# Altium footprint library PAL.PcbLib: 271 footprints (part 4 of 17)
Each footprint in its own frame and in the unit in brackets; x right, y up, seen from the top. Pads: shape width x height; smd on the part's side, far side on the other; paste and mask are expansions set on the pad; w line width, h text height; cw(c..) or ccw(c..) is an arc to the next point about the centre after c.
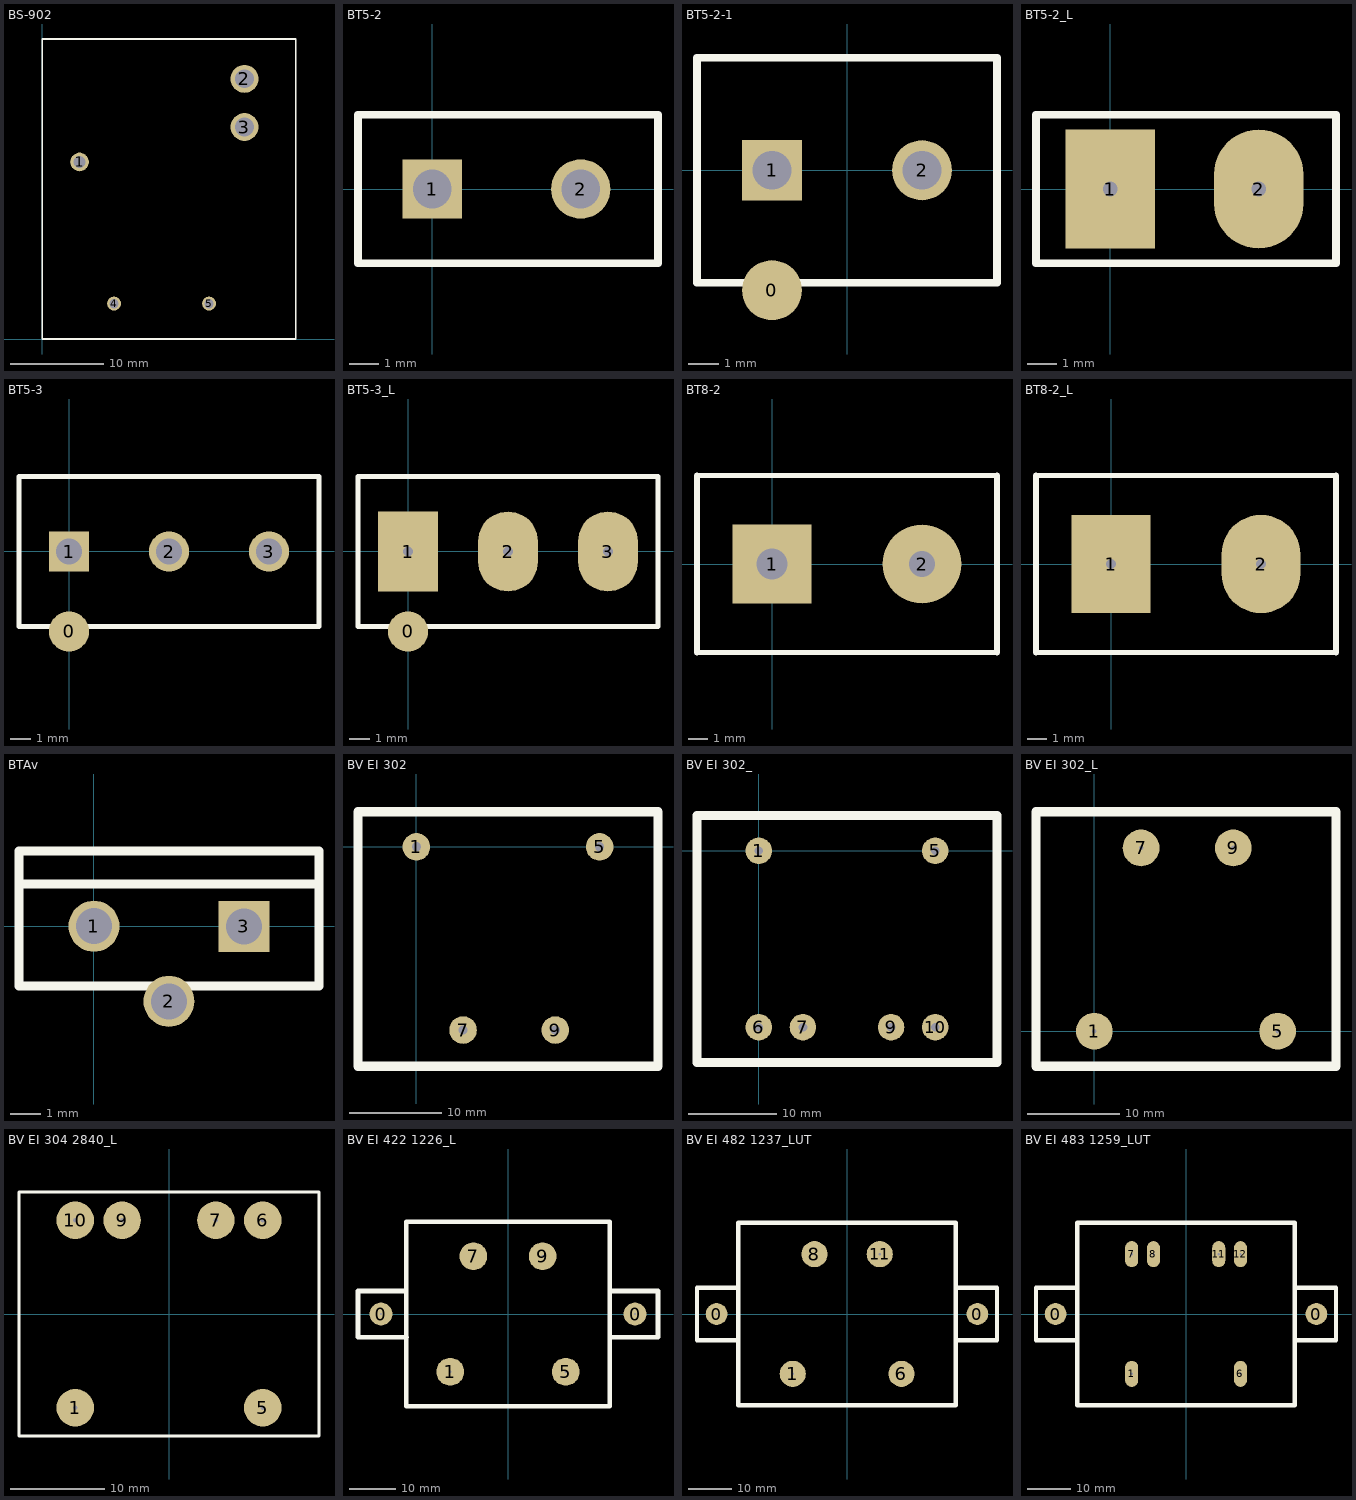
[diagram p3: the footprints below, top view; thin cyan lines are the x and y axes]

## BS-902 [mm]
pads (5):
  round 2 on Top hole 1.3: 1(3.994,19.007)
  round 3 on Top hole 2: 2(21.694,27.932) 3(21.694,22.757)
  round 1.5 on Top hole 1: 4(7.694,3.807) 5(17.894,3.807)
Top Overlay:
  lines w0.2: -0.006,0.007 27.194,0.007 27.194,32.207 -0.006,32.207 -0.006,0.007

## BT5-2 [mm]
pads (2):
  rect 2x2 on Top hole 1.3: 1(0.006,0.008)
  round 2 on Top hole 1.3: 2(5.006,0.008)
Top Overlay:
  lines w0.254: -2.494,1.508 -2.494,2.508 7.606,2.508 7.606,-2.492 -2.494,-2.492 -2.494,2.008

## BT5-2-1 [mm]
pads (3):
  round 2 smd: 0(-2.5,-4)
  rect 2x2 on Top hole 1.3: 1(-2.5,0)
  round 2 on Top hole 1.3: 2(2.5,0)
Top Overlay:
  lines w0.254: -5,-3.75 5,-3.75 5,3.75 -5,3.75 -5,-3.75

## BT5-2_L [mm]
pads (2):
  rect 3x4 on Top hole 0.5: 1(0.006,0.008)
  oval 3x4 on Top hole 0.5: 2(5.006,0.008)
Top Overlay:
  lines w0.254: -2.494,1.508 -2.494,2.508 7.606,2.508 7.606,-2.492 -2.494,-2.492 -2.494,2.008

## BT5-3 [mm]
pads (4):
  round 2 smd: 0(-0.001,-4.001)
  rect 2x2 on Top hole 1.3: 1(-0.001,-0.001)
  round 2 on Top hole 1.3: 2(4.999,-0.001) 3(9.999,-0.001)
Top Overlay:
  lines w0.254: -2.501,1.499 -2.501,2.499 ; -2.501,-3.751 -2.501,3.749 12.499,3.749 12.499,-3.751 -2.501,-3.751

## BT5-3_L [mm]
pads (4):
  round 2 smd: 0(-0.001,-4.001)
  rect 3x4 on Top hole 0.5: 1(-0.001,-0.001)
  oval 3x4 on Top hole 0.5: 2(4.999,-0.001) 3(9.999,-0.001)
Top Overlay:
  lines w0.254: -2.501,1.499 -2.501,2.499 ; -2.501,-3.751 -2.501,3.749 12.499,3.749 12.499,-3.751 -2.501,-3.751

## BT8-2 [mm]
pads (2):
  rect 4x4 on Top hole 1.6: 1(-0.006,0.006)
  round 4 on Top hole 1.3: 2(7.614,0.006)
Top Overlay:
  lines w0.254: -3.816,-4.494 11.424,-4.494 ; -3.816,4.506 11.424,4.506
  lines w0.3: -3.816,-4.494 -3.816,4.506 ; 11.424,-4.494 11.424,4.506

## BT8-2_L [mm]
pads (2):
  rect 4x5 on Top hole 0.5: 1(-0.006,0.006)
  oval 4x5 on Top hole 0.5: 2(7.614,0.006)
Top Overlay:
  lines w0.254: -3.816,-4.494 11.424,-4.494 ; -3.816,4.506 11.424,4.506
  lines w0.3: -3.816,-4.494 -3.816,4.506 ; 11.424,-4.494 11.424,4.506

## BTAv [mm]
pads (3):
  round 1.7 on Top hole 1.2: 1(0.002,0.003) 2(2.5,-2.5)
  rect 1.7x1.7 on Top hole 1.2: 3(5,0)
Top Overlay:
  lines w0.3: -2.498,1.403 7.502,1.403 ; -2.498,-1.997 7.502,-1.997 7.502,2.503 -2.498,2.503 -2.498,0.003 -2.498,-1.997

## BV EI 302 [mm]
pads (4):
  round 3 on Top hole 1: 1(-0.004,-0.011) 5(19.935,-0.011) 7(5.076,-19.95) 9(15.109,-19.95)
Top Overlay:
  lines w1: -6.354,-23.887 -0.004,-23.887 26.285,-23.887 26.285,3.799 -6.354,3.799 -6.354,-23.887

## BV EI 302_ [mm]
pads (6):
  round 3 on Top hole 1: 1(0,0) 5(20,0) 6(0,-20) 7(5,-20) 9(15,-20) 10(20,-20)
Top Overlay:
  lines w1: -7,-24 -7,4 27,4 27,-24 0,-24 -7,-24

## BV EI 302_L [mm]
pads (4):
  round 4 on Top hole 0.5: 1(0.009,0.016) 5(19.948,0.016) 7(5.089,19.955) 9(15.122,19.955)
Top Overlay:
  lines w1: -6.341,-3.794 26.298,-3.794 26.298,23.892 0.009,23.892 -6.341,23.892 -6.341,-3.794

## BV EI 304 2840_L [mm]
pads (6):
  round 4 on Top hole 0.5: 1(-10,-10) 5(10,-10) 6(10,10) 7(5,10) 9(-5,10) 10(-10,10)
Top Overlay:
  lines w0.3: -16,-13 -16,13 16,13 16,-13 -16,-13

## BV EI 422 1226_L [mm]
pads (6):
  round 5 on Top hole 0.5: 0(-27.5,0) 0(27.5,0)
  round 6 on Top hole 0.5: 1(-12.5,-12.5) 5(12.5,-12.5) 7(-7.5,12.5) 9(7.5,12.5)
Top Overlay:
  lines w1: -22.025,4.975 -32.475,4.975 -32.475,-5.025 -21.975,-5.025 ; 22.05,-5.025 32.475,-5.025 32.475,4.975 22.05,4.975 ; -22,-20 -22,20 22,20 22,-20 -22,-20

## BV EI 482 1237_LUT [mm]
pads (6):
  round 5 on Top hole 0.5: 0(-30,0) 0(29.95,0)
  round 6 on Top hole 0.5: 1(-12.5,-13.75) 6(12.5,-13.75) 8(-7.5,13.75) 11(7.5,13.75)
Top Overlay:
  lines w1: -25,-6 -34.5,-6 -34.5,6 -25,6 ; -0.05,-21 24.95,-21 24.95,21 -0.05,21 ; 0,-21 -25,-21 -25,21 0,21 ; 24.95,-6 34.45,-6 34.45,6 24.95,6

## BV EI 483 1259_LUT [mm]
pads (8):
  round 5 on Top hole 0.5: 0(-30,0) 0(29.95,0)
  oval 3x6 on Top hole 0.5: 1(-12.5,-13.75) 6(12.5,-13.75) 7(-12.5,13.75) 8(-7.5,13.75) 11(7.5,13.75) 12(12.5,13.75)
Top Overlay:
  lines w1: -25,-6 -34.5,-6 -34.5,6 -25,6 ; -0.05,-21 24.95,-21 24.95,21 -0.05,21 ; 0,-21 -25,-21 -25,21 0,21 ; 24.95,-6 34.45,-6 34.45,6 24.95,6